# Altium schematic symbol library 74LVC126AD-Q100J.SchLib: 1 symbol
Pins are listed as number, name and electrical type; pins without a type are passive.

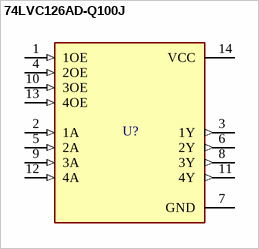
[diagram p0: symbol 74LVC126AD-Q100J]

## 74LVC126AD-Q100J
designator U?, comment OK  (value not drawn)
Quad buffer/line driver with 5 V tolerant input/outputs; 3-state
pins: 1 1OE (in), 2 1A (in), 3 1Y (out), 4 2OE (in), 5 2A (in), 6 2Y (out), 7 GND, 8 3Y (out), 9 3A (in), 10 3OE (in), 11 4Y (out), 12 4A (in), 13 4OE (in), 14 VCC (power)